# EAGLE library part FLAT-FLEX-CONNECTOR-RA-26POS (library FlashPCB_Connectors)
FLAT-FLEX-CONNECTOR-RA-26POS - Flat Flex Connector 26 position Right Angle Technical Specifications: Number of Positions: 26 Contact: Top or Bottom Mount: Right Angle
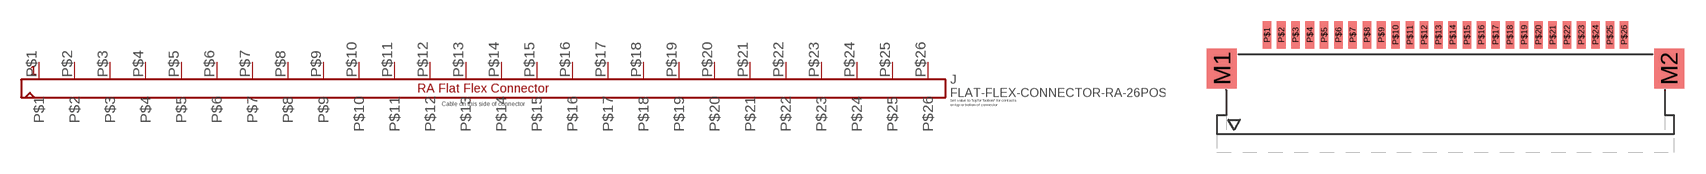
[diagram p117: symbol with the pads of FLAT-FLEX-CONNECTOR-MOLEX-522XX-RA-26POS; footprint FLAT-FLEX-CONNECTOR-MOLEX-522XX-RA-26POS]

Designator prefix J

## FLAT-FLEX-CONNECTOR-RA-26POS1MM-PITCH  [FLAT-FLEX-CONNECTOR-MOLEX-522XX-RA-26POS]
P$1  P$1
P$2  P$2
P$3  P$3
P$4  P$4
P$5  P$5
P$6  P$6
P$7  P$7
P$8  P$8
P$9  P$9
P$10  P$10
P$11  P$11
P$12  P$12
P$13  P$13
P$14  P$14
P$15  P$15
P$16  P$16
P$17  P$17
P$18  P$18
P$19  P$19
P$20  P$20
P$21  P$21
P$22  P$22
P$23  P$23
P$24  P$24
P$25  P$25
P$26  P$26

## Footprint FLAT-FLEX-CONNECTOR-MOLEX-522XX-RA-26POS (pad centres in mm)
smd 2.1 x 2.8: M1 -15.65,-1.4; M2 15.65,-1.4
smd 0.6 x 1.9: P$1 -12.5,0.95; P$2 -11.5,0.95; P$3 -10.5,0.95; P$4 -9.5,0.95; P$5 -8.5,0.95; P$6 -7.5,0.95; P$7 -6.5,0.95; P$8 -5.5,0.95; P$9 -4.5,0.95; P$10 -3.5,0.95; P$11 -2.5,0.95; P$12 -1.5,0.95; P$13 -0.5,0.95; P$14 0.5,0.95; P$15 1.5,0.95; P$16 2.5,0.95; P$17 3.5,0.95; P$18 4.5,0.95; P$19 5.5,0.95; P$20 6.5,0.95; P$21 7.5,0.95; P$22 8.5,0.95; P$23 9.5,0.95; P$24 10.5,0.95; P$25 11.5,0.95; P$26 12.5,0.95